# Altium integrated library NSC Video TV Interface Circuit.IntLib: 2 symbols
Pins are listed as number, name and electrical type; pins without a type are passive.

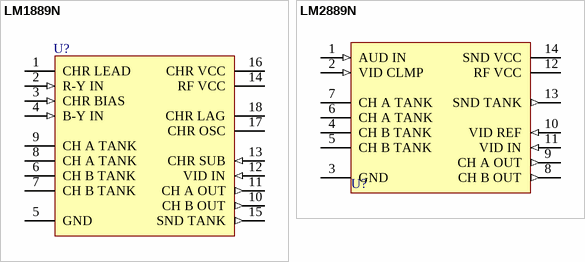
[diagram p0: symbols LM1889N to LM2889N]

## LM1889N
designator U?
TV Video Modulator; Published: 15-Apr-2002; LatestRevisionDate: 06-Jun-2005; LatestRevisionNote: Stylized 3D Model Added.; DatasheetVersion: 1989; PackageVersion: 1995; PackageReference: N18A; Publisher: Altium Limited; PackageDescription: DIP; 18 Leads; Row Spacing 7.62 mm; Pitch 2.54 mm; Code_JEDEC: MS-001-BC; ComponentLink1Description: Manufacturer Link; ComponentLink1URL: http://www.national.com/
footprint N18A (DIP; 18 Leads; Row Spacing 7.62 mm; Pitch 2.54 mm)
3D model N18A (DIP; 18 Leads; Row Spacing 7.62 mm; Pitch 2.54 mm)
pins: 1 CHR LEAD, 2 R-Y IN (in), 3 CHR BIAS (in), 4 B-Y IN (in), 5 GND (power), 6 CH B TANK, 7 CH B TANK, 8 CH A TANK, 9 CH A TANK, 10 CH B OUT (out), 11 CH A OUT (out), 12 VID IN (in), 13 CHR SUB (in), 14 RF VCC (power), 15 SND TANK (out), 16 CHR VCC (power), 17 CHR OSC, 18 CHR LAG

## LM2889N
designator U?
TV Video Modulator; ComponentAvailability: Obsolete; Published: 15-Apr-2002; LatestRevisionDate: 06-Jun-2005; LatestRevisionNote: Stylized 3D Model Added.; DatasheetVersion: Dec-1994; PackageVersion: 2000; PackageReference: N14A; Publisher: Altium Limited; PackageDescription: DIP; 14 Leads; Row Spacing 7.62 mm; Pitch 2.54 mm; ComponentLink1Description: Manufacturer Link; ComponentLink1URL: http://www.national.com/; ComponentLink2Description: Discontinuation Notice; ComponentLink2URL: http://www.national.com/obs/obsolescence.txt
footprint N14A (DIP; 14 Leads; Row Spacing 7.62 mm; Pitch 2.54 mm)
3D model N14A (DIP; 14 Leads; Row Spacing 7.62 mm; Pitch 2.54 mm)
pins: 1 AUD IN (in), 2 VID CLMP (in), 3 GND (power), 4 CH B TANK, 5 CH B TANK, 6 CH A TANK, 7 CH A TANK, 8 CH B OUT (out), 9 CH A OUT (out), 10 VID REF (in), 11 VID IN (in), 12 RF VCC (power), 13 SND TANK (out), 14 SND VCC (power)